# EAGLE library part ESP8266-12 (library modules)
ESP8266-12 WiFi module
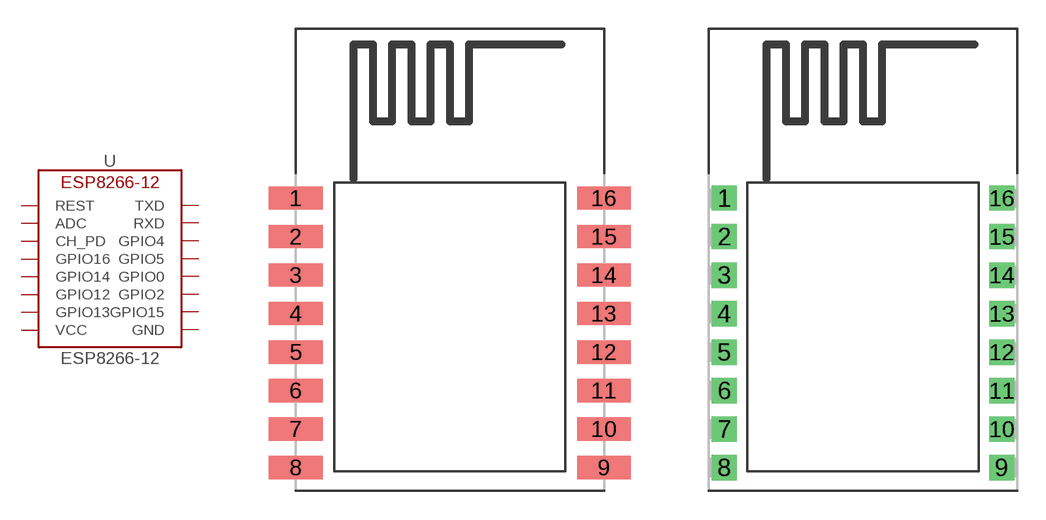
[diagram p0: symbol with the pads of ESP8266-12_SMD; footprints ESP8266-12_SMD, ESP8266-12_THT]

Designator prefix -

## ESP8266-12SMD  [ESP8266-12_SMD]
1  REST  in
2  ADC  in
3  CH_PD  in
4  GPIO16
5  GPIO14
6  GPIO12
7  GPIO13
8  VCC  pwr
9  GND  pwr
10  GPIO15
11  GPIO2
12  GPIO0
13  GPIO5
14  GPIO4
15  RXD  in
16  TXD  out

## ESP8266-12THT  [ESP8266-12_THT]
Pads as for ESP8266-12_SMD

## ESP8266-12THT_EDGE  [ESP8266-12_THT_EDGE]
Pads as for ESP8266-12_SMD

## ESP8266-12THT_BOTH  [ESP8266-12_THT_BOTH]
Pads as for ESP8266-12_SMD

## Footprint ESP8266-12_SMD (pad centres in mm)
smd 2.8 x 1.2: 1 -8,3.2; 2 -8,1.2; 3 -8,-0.8; 4 -8,-2.8; 5 -8,-4.8; 6 -8,-6.8; 7 -8,-8.8; 8 -8,-10.8; 9 8,-10.8; 10 8,-8.8; 11 8,-6.8; 12 8,-4.8; 13 8,-2.8; 14 8,-0.8; 15 8,1.2; 16 8,3.2

## Footprint ESP8266-12_THT (pad centres in mm)
drill 0.8 square: 1 -7.2,3.2; 2 -7.2,1.2; 3 -7.2,-0.8; 4 -7.2,-2.8; 5 -7.2,-4.8; 6 -7.2,-6.8; 7 -7.2,-8.8; 8 -7.2,-10.8; 9 7.2,-10.8; 10 7.2,-8.8; 11 7.2,-6.8; 12 7.2,-4.8; 13 7.2,-2.8; 14 7.2,-0.8; 15 7.2,1.2; 16 7.2,3.2

## Footprint ESP8266-12_THT_EDGE (pad centres in mm)
drill 0.8 square: 1 -8.1,3.2; 2 -8.1,1.2; 3 -8.1,-0.8; 4 -8.1,-2.8; 5 -8.1,-4.8; 6 -8.1,-6.8; 7 -8.1,-8.8; 8 -8.1,-10.8; 9 8.1,-10.8; 10 8.1,-8.8; 11 8.1,-6.8; 12 8.1,-4.8; 13 8.1,-2.8; 14 8.1,-0.8; 15 8.1,1.2; 16 8.1,3.2

## Footprint ESP8266-12_THT_BOTH (pad centres in mm)
drill 0.8: 1 -7.2,3.2; 2 -7.2,1.2; 3 -7.2,-0.8; 4 -7.2,-2.8; 5 -7.2,-4.8; 6 -7.2,-6.8; 7 -7.2,-8.8; 8 -7.2,-10.8; 9 7.2,-10.8; 10 7.2,-8.8; 11 7.2,-6.8; 12 7.2,-4.8; 13 7.2,-2.8; 14 7.2,-0.8; 15 7.2,1.2; 16 7.2,3.2; E1 -8.1,3.2; E2 -8.1,1.2; E3 -8.1,-0.8; E4 -8.1,-2.8; E5 -8.1,-4.8; E6 -8.1,-6.8; E7 -8.1,-8.8; E8 -8.1,-10.8; E9 8.1,-10.8; E10 8.1,-8.8; E11 8.1,-6.8; E12 8.1,-4.8; E13 8.1,-2.8; E14 8.1,-0.8; E15 8.1,1.2; E16 8.1,3.2